# EAGLE library part MAX232 (library connectors)
RS232 TRANSEIVER
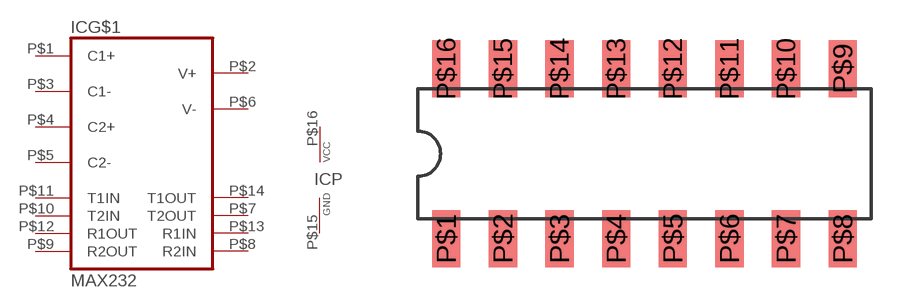
[diagram p2: symbol with the pads of DIL16; footprint DIL16]

Designator prefix IC; gates G$1=MAX232 P=VCC-GND

## MAX232  [DIL16]
P$1  G$1:C1+
P$2  G$1:V+
P$3  G$1:C1-
P$4  G$1:C2+
P$5  G$1:C2-
P$6  G$1:V-
P$7  G$1:T2OUT  out
P$8  G$1:R2IN  in
P$9  G$1:R2OUT  out
P$10  G$1:T2IN  in
P$11  G$1:T1IN  in
P$12  G$1:R1OUT  out
P$13  G$1:R1IN  in
P$14  G$1:T1OUT  out
P$15  P:GND  pwr
P$16  P:VCC  pwr

## Footprint DIL16 (pad centres in mm)
Dual In Line Package
smd 1.27 x 2.54: P$1 -8.89,-3.81; P$2 -6.35,-3.81; P$3 -3.81,-3.81; P$4 -1.27,-3.81; P$5 1.27,-3.81; P$6 3.81,-3.81; P$7 6.35,-3.81; P$8 8.89,-3.81; P$9 8.89,3.81; P$10 6.35,3.81; P$11 3.81,3.81; P$12 1.27,3.81; P$13 -1.27,3.81; P$14 -3.81,3.81; P$15 -6.35,3.81; P$16 -8.89,3.81